# Altium schematic symbol library Visualizacion_PRJ.SCHLIB: 7 symbols
Pins are listed as number, name and electrical type; pins without a type are passive.

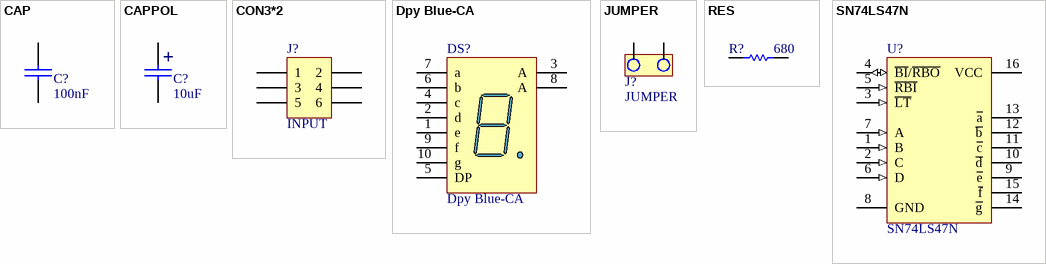
[diagram p0: symbols CAP to SN74LS47N]

## CAP
designator C?, comment 100nF
Value: 100nF; Footprint: SMD 0805
footprint 0805 (Pasivo 0805)
footprint 1206 (Pasivo 1206)
footprint 0603 (Footprint not found)
footprint CAP200
footprint CAP100
pins: 1, 2

## CAPPOL
designator C?, comment 10uF
Value: 10uF; Footprint: THT
footprint CAP100RP
footprint CAP200RP
footprint CAP100RP2 (Footprint not found)
footprint CAP200RP2 (Body Diameter 12.5mm)
footprint CAP300RP
pins: 1, 2
text: +

## CON3*2
designator J?, comment INPUT
Value: Pines Macho; Footprint: Pines Macho
footprint SIP3*2 (Footprint not found)
pins: 1, 2, 3, 4, 5, 6

## Dpy Blue-CA
designator DS?
14.2 mm General Purpose Blue 7-Segment Display: CA, RH DP, Gray Surface; Value: Display 7 Segmentos Blue; Footprint: THT
footprint H (LED, 7-Segment Display, 14.2 mm, RHD; 10 Leads; Row Space 15.24 mm; Pitch 2.54 mm)
simulation model HDSP_501B (SUBCKT)
pins: 1 e "Cathode", 2 d "Cathode", 3 A "Common Anode", 4 c "Cathode", 5 DP "Cathode", 6 b "Cathode", 7 a "Cathode", 8 A "Common Anode", 9 f "Cathode", 10 g "Cathode"

## JUMPER
designator J?
Value: Jumper; Footprint: Pines Macho
footprint 0805 (Pasivo 0805)
footprint JUMPER2
pins: 1, 2

## RES
designator R?, comment 680
Value: 680; Footprint: SMD 0805
footprint 0805 (Chip Resistor, 2-Leads, Body 0,8"x0,5" - 2,0x1,3mm, IPC High Density)
footprint RES400
footprint RES100
footprint RES300
footprint 1206 (Pasivo 1206)
footprint RES500
footprint RES600
footprint RES1200
pins: 1, 2

## SN74LS47N
designator U?
BCD-to-Seven-Segment Decoder/Driver; Value: 74LS47; Footprint: THT DIP16
footprint N016 (DIP, 16-Leads, Row Spacing 7.62mm, Pitch 2.54mm, Body 19.31x6.35mm)
3D model N016 (DIP, 16-Pin, Row Spacing 7.62 mm, Pitch 2.54 mm)
simulation model SN74LS47 (SIMCODE)
signal-integrity model SN74LS47N
pins: 1 B (in), 2 C (in), 3 ~{LT} (in), 4 ~{BI}/~{RBO} (io), 5 ~{RBI} (in), 6 D (in), 7 A (in), 8 GND (power), 9 ~{e} (oc), 10 ~{d} (oc), 11 ~{c} (oc), 12 ~{b} (oc), 13 ~{a} (oc), 14 ~{g} (oc), 15 ~{f} (oc), 16 VCC (power)